# EAGLE library part ADUM2250 (library di_ic)
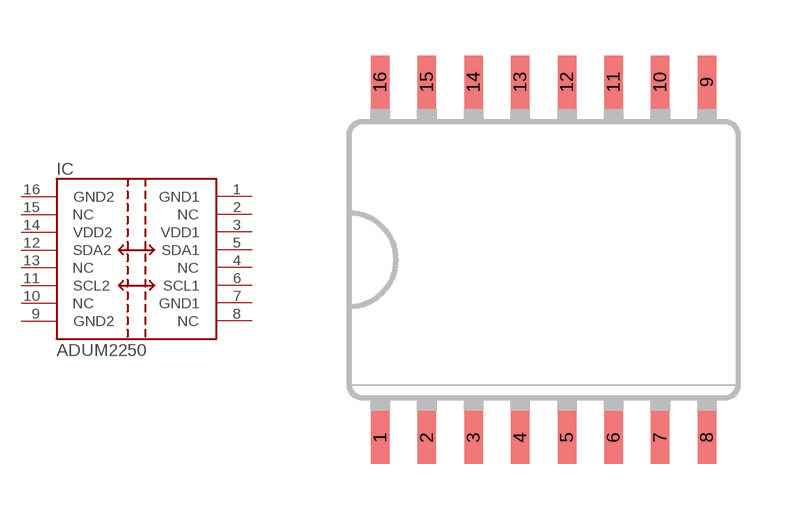
[diagram p5: symbol with the pads of SO16W; footprint SO16W]

Designator prefix IC

## ADUM2250  [SO16W]
1  GND1  sup
2  NC  nc
3  VDD1  pwr
4  NC  nc
5  SDA1
6  SCL1
7  GND1  sup
8  NC  pas
9  GND2  sup
10  NC  nc
11  SCL2
12  SDA2
13  NC  nc
14  VDD2  pwr
15  NC  nc
16  GND2  sup

## Footprint SO16W (pad centres in mm)
Small Outline Package .300 SIOC Source: http://www.maxim-ic.com/cgi-bin/packages?pkg=16%2FSOIC%2E300&Type=Max
smd 0.5 x 1.43: 1 -4.41,-4.8; 2 -3.15,-4.8; 3 -1.89,-4.8; 4 -0.63,-4.8; 5 0.63,-4.8; 6 1.89,-4.8; 7 3.15,-4.8; 8 4.41,-4.8; 9 4.41,4.8; 10 3.15,4.8; 11 1.89,4.8; 12 0.63,4.8; 13 -0.63,4.8; 14 -1.89,4.8; 15 -3.15,4.8; 16 -4.41,4.8